# Altium footprint library BAT_MS621FE-FL11E.PcbLib: 1 footprints
Each footprint in its own frame and in the unit in brackets; x right, y up, seen from the top. Pads: shape width x height; smd on the part's side, far side on the other; paste and mask are expansions set on the pad; w line width, h text height; cw(c..) or ccw(c..) is an arc to the next point about the centre after c.
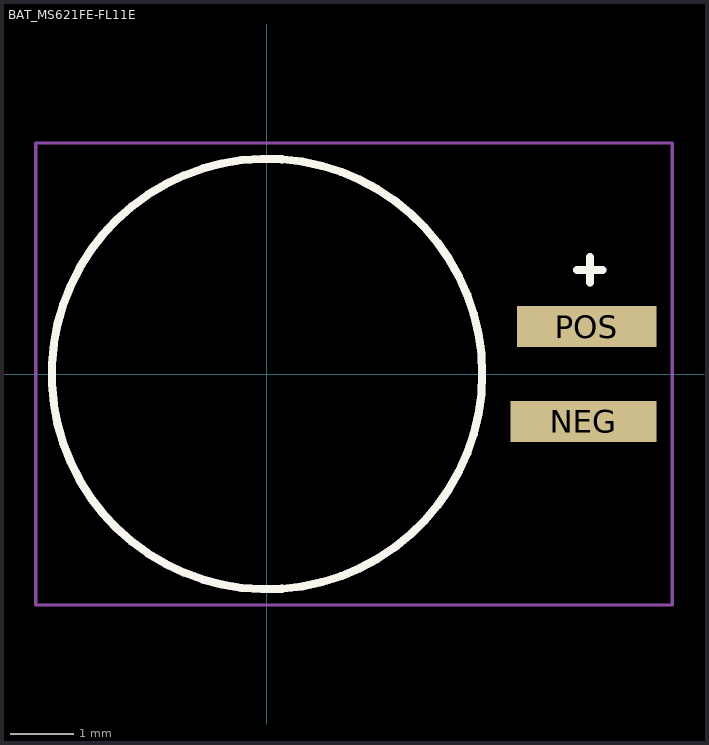
[diagram p0: the footprint, top view; thin cyan lines are the x and y axes]

## BAT_MS621FE-FL11E [mm]
height 2.8
pads (2):
  rect 2.3x0.65 smd: NEG(5,-0.75)
  rect 2.2x0.65 smd: POS(5.05,0.75)
Top Overlay:
  circle w0.127: c0,0 r3.4
  lines w0.127: 4.9,1.646 5.3,1.646 ; 5.1,1.446 5.1,1.846
Mechanical 13:
  circle w0.127: c0,0 r3.4
  lines w0.127: 4.9,1.646 5.3,1.646 ; 5.1,1.446 5.1,1.846
Mechanical 15:
  lines w0.05: -3.65,-3.65 -3.65,3.65 6.4,3.65 6.4,-3.65 -3.65,-3.65
3D body "step_temp.STEP": height 2.8, standoff 0, extent -3.4,-3.4 5.9,3.4